# Altium footprint library Conn_Samtec_LSHM-120-02_5-L-DV-A-S-K-TR_eec_0.PcbLib: 1 footprints
Each footprint in its own frame and in the unit in brackets; x right, y up, seen from the top. Pads: shape width x height; smd on the part's side, far side on the other; paste and mask are expansions set on the pad; w line width, h text height; cw(c..) or ccw(c..) is an arc to the next point about the centre after c.
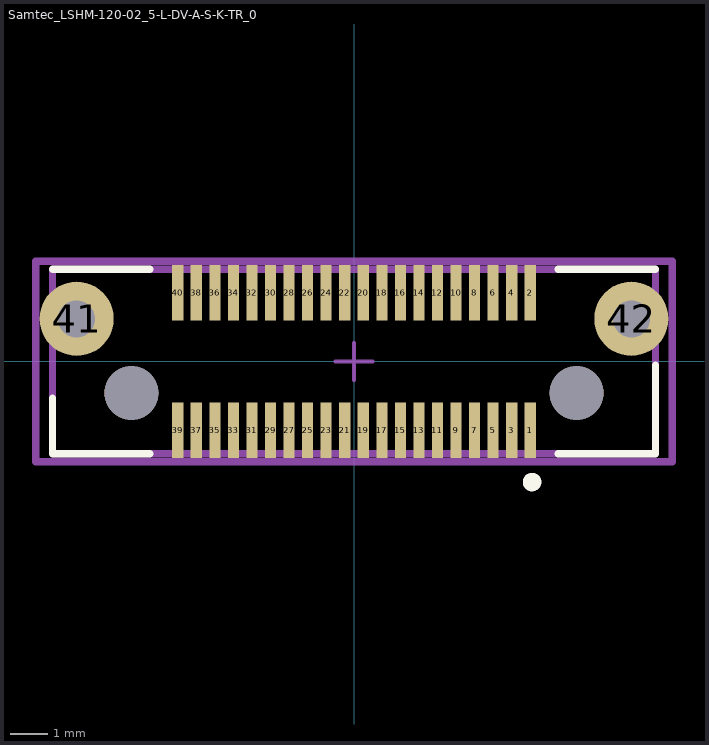
[diagram p0: the footprint, top view; thin cyan lines are the x and y axes]

## Samtec_LSHM-120-02_5-L-DV-A-S-K-TR_0 [mm]
pads (44):
  rect 0.3x1.5 smd paste+0 mask+0: 1(4.75,-1.85) 2(4.75,1.85) 3(4.25,-1.85) 4(4.25,1.85) 5(3.75,-1.85) 6(3.75,1.85) 7(3.25,-1.85) 8(3.25,1.85) 9(2.75,-1.85) 10(2.75,1.85) 11(2.25,-1.85) 12(2.25,1.85) 13(1.75,-1.85) 14(1.75,1.85) 15(1.25,-1.85) 16(1.25,1.85) 17(0.75,-1.85) 18(0.75,1.85) 19(0.25,-1.85) 20(0.25,1.85) 21(-0.25,-1.85) 22(-0.25,1.85) 23(-0.75,-1.85) 24(-0.75,1.85) 25(-1.25,-1.85) 26(-1.25,1.85) 27(-1.75,-1.85) 28(-1.75,1.85) 29(-2.25,-1.85) 30(-2.25,1.85) 31(-2.75,-1.85) 32(-2.75,1.85) 33(-3.25,-1.85) 34(-3.25,1.85) 35(-3.75,-1.85) 36(-3.75,1.85) 37(-4.25,-1.85) 38(-4.25,1.85) 39(-4.75,-1.85) 40(-4.75,1.85)
  round 2 hole 1 paste-1000 mask+0: 41(-7.475,1.15) 42(7.475,1.15)
  round 1.45 hole 1.45 unplated paste-1000 mask+0: ""(-6,-0.85) ""(6,-0.85)
Top Overlay:
  circle w0.25: c4.8,-3.25 r0.125
  lines w0.2: -8.125,-0.99 -8.125,-2.49 -5.5,-2.49 ; -8.125,2.49 -5.5,2.49 ; 5.5,-2.49 8.125,-2.49 8.125,-0.1 ; 5.5,2.49 8.125,2.49
Mechanical 10:
  lines w0.2: -8.575,-2.7 8.575,-2.7 8.575,2.7 -8.575,2.7 -8.575,-2.7
  text ".Designator" at 0,0 h1
Mechanical 12:
  lines w0.2: -8.125,-2.49 8.125,-2.49 8.125,2.49 -8.125,2.49 -8.125,-2.49
Mechanical 15:
  lines w0.1: -0.5,0 0.5,0 ; 0,-0.5 0,0.5
  lines w0.2: -8.575,-2.7 8.575,-2.7 8.575,2.7 -8.575,2.7 -8.575,-2.7
3D body "Conn_Samtec_LSHM-120-02_5-L-DV-A-S-K-TR_eec.STEP": height 0.25, standoff 0, extent -8.575,-2.7 8.575,2.7